# Altium integrated library PJ-006A-SMT.IntLib: 1 symbol
Pins are listed as number, name and electrical type; pins without a type are passive.

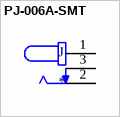
[diagram p0: symbol PJ-006A-SMT]

## PJ-006A-SMT
designator J
2.0 x 6.3 mm, 2.5 A, Vertical, Surface Mount _SMT_, Dc Power Jack Connector; MP: PJ-006A-SMT; MF: CUI Devices; Package: None; SnapEDA_Link: https://www.snapeda.com/parts/PJ-006A-SMT/CUI%20Devices/view-part/2772229/?ref=snap; Price: None; Value: *; Availability: Unavailable
footprint CUI_PJ-006A-SMT
pins: 1, 2, 3